# Altium footprint library WE-PoE.PcbLib: 11 footprints
Each footprint in its own frame and in the unit in brackets; x right, y up, seen from the top. Pads: shape width x height; smd on the part's side, far side on the other; paste and mask are expansions set on the pad; w line width, h text height; cw(c..) or ccw(c..) is an arc to the next point about the centre after c.
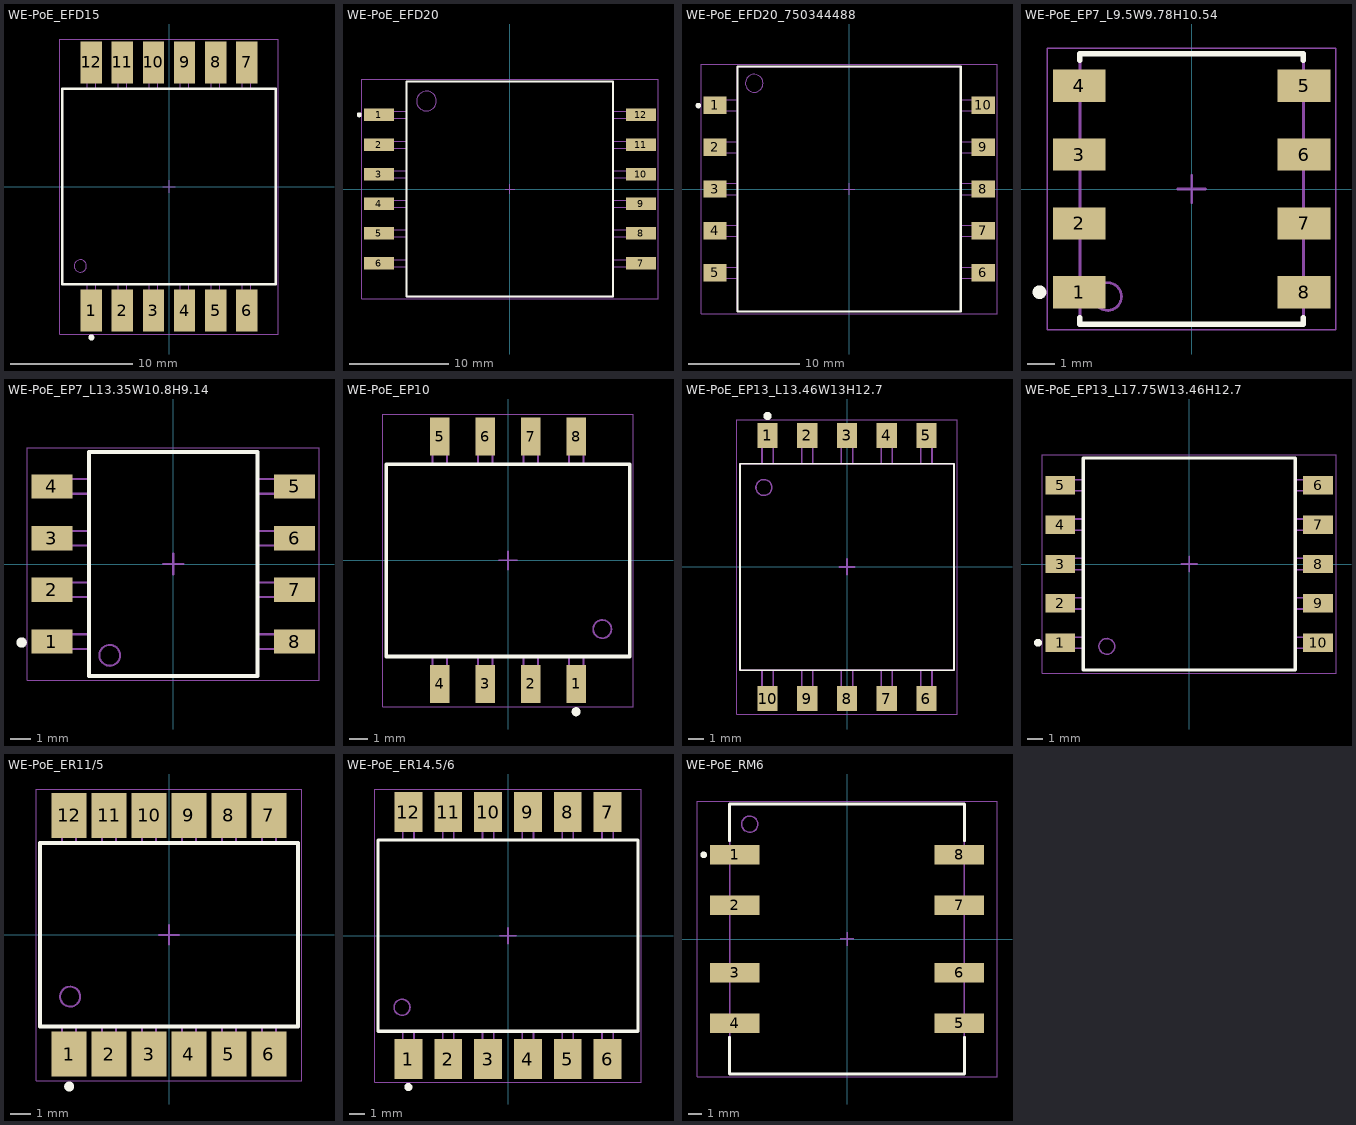
[diagram p0: the footprints below, top view; thin cyan lines are the x and y axes]

## WE-PoE_EFD15 [mm] "Power over Ethernet Transformer, size EFD15"
height 8.3
pads (12):
  rect 1.75x3.43 smd: 1(-6.35,-10.155) 2(-3.81,-10.155) 3(-1.27,-10.155) 4(1.27,-10.155) 5(3.81,-10.155) 6(6.35,-10.155) 7(6.35,10.155) 8(3.81,10.155) 9(1.27,10.155) 10(-1.27,10.155) 11(-3.81,10.155) 12(-6.35,10.155)
Top Overlay:
  circle w0.25: c-6.35,-12.35 r0.125
  lines w0.2: -8.75,-8 -8.75,8 8.75,8 8.75,-8 -8.75,-8
Top Assembly:
  circle w0.1: c-7.25,-6.5 r0.5
  lines w0.1: -6.7,-8 -6.7,-11.05 -6,-11.05 -6,-8 ; -6.7,8 -6.7,11.05 -6,11.05 -6,8 ; -4.16,-8 -4.16,-11.05 -3.46,-11.05 -3.46,-8 ; -4.16,8 -4.16,11.05 -3.46,11.05 -3.46,8 ; -1.62,-8 -1.62,-11.05 -0.92,-11.05 -0.92,-8 ; -1.62,8 -1.62,11.05 -0.92,11.05 -0.92,8 ; 0.92,-8 0.92,-11.05 1.62,-11.05 1.62,-8 ; 0.92,8 0.92,11.05 1.62,11.05 1.62,8 ; 3.46,-8 3.46,-11.05 4.16,-11.05 4.16,-8 ; 3.46,8 3.46,11.05 4.16,11.05 4.16,8 ; 6,-8 6,-11.05 6.7,-11.05 6.7,-8 ; 6,8 6,11.05 6.7,11.05 6.7,8 ; -8.75,-8 -8.75,8 8.75,8 8.75,-8 -8.75,-8
Top Designator:
  text ".Designator" at -3.647,-0.357 h1
Top Courtyard:
  lines w0.05: -8.95,-12.07 8.95,-12.07 8.95,12.07 -8.95,12.07 -8.95,-12.07
Top Component Center:
  lines w0.1: -0.5,0 0.5,0 ; 0,-0.5 0,0.5
3D body "EFD15_749119333.stp": height 8.3, standoff 0, extent -8.75,-11.05 8.75,11.05

## WE-PoE_EFD20 [mm] "Power over Ethernet Transformer, size EFD20"
height 11.43
pads (12):
  rect 3.05x1.27 smd: 1(-13.26,7.5) 2(-13.26,4.5) 3(-13.26,1.5) 4(-13.26,-1.5) 5(-13.26,-4.5) 6(-13.26,-7.5) 7(13.26,-7.5) 8(13.26,-4.5) 9(13.26,-1.5) 10(13.26,1.5) 11(13.26,4.5) 12(13.26,7.5)
Top Overlay:
  circle w0.25: c-15.257,7.51 r0.125
  lines w0.2: -10.45,-10.9 -10.45,10.9 10.45,10.9 10.45,-10.9 -10.45,-10.9
Top Assembly:
  circle w0.1: c-8.45,8.9 r1
  lines w0.1: -10.45,-7.855 -14.28,-7.855 -14.28,-7.145 -10.45,-7.145 ; -10.45,-4.855 -14.28,-4.855 -14.28,-4.145 -10.45,-4.145 ; -10.45,-1.855 -14.28,-1.855 -14.28,-1.145 -10.45,-1.145 ; -10.45,1.145 -14.28,1.145 -14.28,1.855 -10.45,1.855 ; -10.45,4.145 -14.28,4.145 -14.28,4.855 -10.45,4.855 ; -10.45,7.145 -14.28,7.145 -14.28,7.855 -10.45,7.855 ; 10.45,-7.855 14.28,-7.855 14.28,-7.145 10.45,-7.145 ; 10.45,-4.855 14.28,-4.855 14.28,-4.145 10.45,-4.145 ; 10.45,-1.855 14.28,-1.855 14.28,-1.145 10.45,-1.145 ; 10.45,1.145 14.28,1.145 14.28,1.855 10.45,1.855 ; 10.45,4.145 14.28,4.145 14.28,4.855 10.45,4.855 ; 10.45,7.145 14.28,7.145 14.28,7.855 10.45,7.855 ; -10.45,-10.9 -10.45,10.9 10.45,10.9 10.45,-10.9 -10.45,-10.9
Top Designator:
  text ".Designator" at -3.647,-0.357 h1
Top Courtyard:
  lines w0.05: -14.985,-11.1 -14.985,11.1 14.985,11.1 14.985,-11.1 -14.985,-11.1
Top Component Center:
  lines w0.1: -0.5,0 0.5,0 ; 0,-0.5 0,0.5
3D body "070-5899.STEP": height 10.93, standoff 0, extent -14.28,-10 14.28,10.1

## WE-PoE_EFD20_750344488 [mm] "Power over Ethernet Transformer, size EFD20"
height 10.92
pads (10):
  rect 2.08x1.55 smd: 1(-12.05,7.52) 2(-12.05,3.76) 3(-12.05,0) 4(-12.05,-3.76) 5(-12.05,-7.52) 6(12.05,-7.52) 7(12.05,-3.76) 8(12.05,0) 9(12.05,3.76) 10(12.05,7.52)
Top Overlay:
  circle w0.25: c-13.55,7.5 r0.125
  lines w0.2: -10.04,-11 -10.04,11 10.04,11 10.04,-11 -10.04,-11
Top Assembly:
  circle w0.1: c-8.54,9.5 r0.8
  lines w0.1: -10.04,-8.02 -12.58,-8.02 -12.58,-7.02 -10.04,-7.02 ; -10.04,-4.26 -12.58,-4.26 -12.58,-3.26 -10.04,-3.26 ; -10.04,-0.5 -12.58,-0.5 -12.58,0.5 -10.04,0.5 ; -10.04,3.26 -12.58,3.26 -12.58,4.26 -10.04,4.26 ; -10.04,7.02 -12.58,7.02 -12.58,8.02 -10.04,8.02 ; 10.04,-8.02 12.58,-8.02 12.58,-7.02 10.04,-7.02 ; 10.04,-4.26 12.58,-4.26 12.58,-3.26 10.04,-3.26 ; 10.04,-0.5 12.58,-0.5 12.58,0.5 10.04,0.5 ; 10.04,3.26 12.58,3.26 12.58,4.26 10.04,4.26 ; 10.04,7.02 12.58,7.02 12.58,8.02 10.04,8.02 ; -10.04,-11 -10.04,11 10.04,11 10.04,-11 -10.04,-11
Top Designator:
  text ".Designator" at -3.647,-0.357 h1
Top Courtyard:
  lines w0.05: -13.29,-11.2 -13.29,11.2 13.29,11.2 13.29,-11.2 -13.29,-11.2
Top Component Center:
  lines w0.1: -0.5,0 0.5,0 ; 0,-0.5 0,0.5
3D body "070-4290 (rev1) (1).STEP": height 10.56, standoff 0.03, extent -12.54,-10.74 12.54,10.74

## WE-PoE_EP7_L9.5W9.78H10.54 [mm] "Power over Ethernet Transformer, size EP7"
height 10.54
pads (8):
  rect 1.91x1.17 smd: 1(-4.065,-3.735) 2(-4.065,-1.245) 3(-4.065,1.245) 4(-4.065,3.735) 5(4.065,3.735) 6(4.065,1.245) 7(4.065,-1.245) 8(4.065,-3.735)
Top Overlay:
  circle w0.25: c-5.504,-3.732 r0.125
  lines w0.2: -4.04,-4.65 -4.04,-4.89 4.04,-4.89 4.04,-4.65 ; -4.04,4.65 -4.04,4.89 4.04,4.89 4.04,4.65
Top Assembly:
  circle w0.1: c-3.04,-3.89 r0.5
  lines w0.1: -4.04,-4.085 -4.4,-4.085 -4.4,-3.385 -4.04,-3.385 ; -4.04,-1.595 -4.4,-1.595 -4.4,-0.895 -4.04,-0.895 ; -4.04,0.895 -4.4,0.895 -4.4,1.595 -4.04,1.595 ; -4.04,3.385 -4.4,3.385 -4.4,4.085 -4.04,4.085 ; 4.04,-4.085 4.4,-4.085 4.4,-3.385 4.04,-3.385 ; 4.04,-1.595 4.4,-1.595 4.4,-0.895 4.04,-0.895 ; 4.04,0.895 4.4,0.895 4.4,1.595 4.04,1.595 ; 4.04,3.385 4.4,3.385 4.4,4.085 4.04,4.085 ; -4.04,-4.89 -4.04,4.89 4.04,4.89 4.04,-4.89 -4.04,-4.89
Top Designator:
  text ".Designator" at -3.647,-0.357 h1
Top Courtyard:
  lines w0.05: -5.22,-5.09 -5.22,5.09 5.22,5.09 5.22,-5.09 -5.22,-5.09
Top Component Center:
  lines w0.1: -0.5,0 0.5,0 ; 0,-0.5 0,0.5
3D body "070-4436 (rev1).STEP": height 10.09, standoff 0, extent -4.4,-4.89 4.4,4.89

## WE-PoE_EP7_L13.35W10.8H9.14 [mm] "Power over Ethernet Transformer, size EP7"
height 9.14
pads (8):
  rect 1.96x1.17 smd: 1(-5.84,-3.735) 2(-5.84,-1.245) 3(-5.84,1.245) 4(-5.84,3.735) 5(5.84,3.735) 6(5.84,1.245) 7(5.84,-1.245) 8(5.84,-3.735)
Top Overlay:
  circle w0.25: c-7.304,-3.782 r0.125
  lines w0.2: -4.06,-5.4 4.06,-5.4 4.06,5.4 -4.06,5.4 -4.06,-5.4
Top Assembly:
  circle w0.1: c-3.06,-4.4 r0.5
  lines w0.1: -4.06,-4.085 -6.35,-4.085 -6.35,-3.385 -4.06,-3.385 ; -4.06,-1.595 -6.35,-1.595 -6.35,-0.895 -4.06,-0.895 ; -4.06,0.895 -6.35,0.895 -6.35,1.595 -4.06,1.595 ; -4.06,3.385 -6.35,3.385 -6.35,4.085 -4.06,4.085 ; 4.06,-4.085 6.35,-4.085 6.35,-3.385 4.06,-3.385 ; 4.06,-1.595 6.35,-1.595 6.35,-0.895 4.06,-0.895 ; 4.06,0.895 6.35,0.895 6.35,1.595 4.06,1.595 ; 4.06,3.385 6.35,3.385 6.35,4.085 4.06,4.085 ; -4.06,-5.4 4.06,-5.4 4.06,5.4 -4.06,5.4 -4.06,-5.4
Top Designator:
  text ".Designator" at -3.647,-0.357 h1
Top Courtyard:
  lines w0.05: -7.02,-5.6 -7.02,5.6 7.02,5.6 7.02,-5.6 -7.02,-5.6
Top Component Center:
  lines w0.1: -0.5,0 0.5,0 ; 0,-0.5 0,0.5
3D body "Download_STP_EP7_070-4390 (rev1).STEP": height 8.6, standoff 0, extent -6.346,-5.234 6.354,5.226

## WE-PoE_EP10 [mm] "Power over Ethernet Transformer, size EP10"
height 11.43
pads (8):
  rect 1.07x2.08 smd: 1(3.735,-6.78) 2(1.245,-6.78) 3(-1.245,-6.78) 4(-3.735,-6.78) 5(-3.735,6.78) 6(-1.245,6.78) 7(1.245,6.78) 8(3.735,6.78)
Top Overlay:
  circle w0.25: c3.735,-8.3 r0.125
  lines w0.2: -6.67,-5.27 -6.67,5.27 6.67,5.27 6.67,-5.27 -6.67,-5.27
Top Assembly:
  circle w0.1: c5.17,-3.77 r0.5
  lines w0.1: -4.135,-5.27 -4.135,-7.62 -3.335,-7.62 -3.335,-5.27 ; -4.135,5.27 -4.135,7.62 -3.335,7.62 -3.335,5.27 ; -1.645,-5.27 -1.645,-7.62 -0.845,-7.62 -0.845,-5.27 ; -1.645,5.27 -1.645,7.62 -0.845,7.62 -0.845,5.27 ; 0.845,-5.27 0.845,-7.62 1.645,-7.62 1.645,-5.27 ; 0.845,5.27 0.845,7.62 1.645,7.62 1.645,5.27 ; 3.335,-5.27 3.335,-7.62 4.135,-7.62 4.135,-5.27 ; 3.335,5.27 3.335,7.62 4.135,7.62 4.135,5.27 ; -6.67,-5.27 -6.67,5.27 6.67,5.27 6.67,-5.27 -6.67,-5.27
Top Designator:
  text ".Designator" at -3.647,-0.357 h1
Top Courtyard:
  lines w0.05: -6.87,-8.02 -6.87,8.02 6.87,8.02 6.87,-8.02 -6.87,-8.02
Top Component Center:
  lines w0.1: -0.5,0 0.5,0 ; 0,-0.5 0,0.5
3D body "EP10_750310062.stp": height 11.43, standoff 0, extent -5.9,-7.62 5.9,7.62

## WE-PoE_EP13_L13.46W13H12.7 [mm] "Power over Ethernet Transformer, size EP13"
height 12.7
pads (10):
  rect 1.27x1.55 smd: 1(-5,8.275) 2(-2.5,8.275) 3(0,8.275) 4(2.5,8.275) 5(5,8.275) 6(5,-8.275) 7(2.5,-8.275) 8(0,-8.275) 9(-2.5,-8.275) 10(-5,-8.275)
Top Overlay:
  circle w0.25: c-5,9.5 r0.125
  lines w0.1: -6.73,-6.5 -6.73,6.5 6.73,6.5 6.73,-6.5 -6.73,-6.5
Top Assembly:
  circle w0.1: c-5.23,5 r0.5
  lines w0.1: -5.35,-6.5 -5.35,-8.875 -4.65,-8.875 -4.65,-6.5 ; -5.35,6.5 -5.35,8.875 -4.65,8.875 -4.65,6.5 ; -2.85,-6.5 -2.85,-8.875 -2.15,-8.875 -2.15,-6.5 ; -2.85,6.5 -2.85,8.875 -2.15,8.875 -2.15,6.5 ; -0.35,-6.5 -0.35,-8.875 0.35,-8.875 0.35,-6.5 ; -0.35,6.5 -0.35,8.875 0.35,8.875 0.35,6.5 ; 2.15,-6.5 2.15,-8.875 2.85,-8.875 2.85,-6.5 ; 2.15,6.5 2.15,8.875 2.85,8.875 2.85,6.5 ; 4.65,-6.5 4.65,-8.875 5.35,-8.875 5.35,-6.5 ; 4.65,6.5 4.65,8.875 5.35,8.875 5.35,6.5 ; -6.73,-6.5 -6.73,6.5 6.73,6.5 6.73,-6.5 -6.73,-6.5
Top Designator:
  text ".Designator" at -3.647,-0.357 h1
Top Courtyard:
  lines w0.05: -6.93,-9.25 -6.93,9.25 6.93,9.25 6.93,-9.25 -6.93,-9.25
Top Component Center:
  lines w0.1: -0.5,0 0.5,0 ; 0,-0.5 0,0.5
3D body "EP13_749119933.stp": height 12.5, standoff 0, extent -6.75,-8.875 6.75,8.875

## WE-PoE_EP13_L17.75W13.46H12.7 [mm] "Power over Ethernet Transformer, size EP13"
height 12.7
pads (10):
  rect 1.88x1.17 smd: 1(-8.18,-5) 2(-8.18,-2.5) 3(-8.18,0) 4(-8.18,2.5) 5(-8.18,5) 6(8.18,5) 7(8.18,2.5) 8(8.18,0) 9(8.18,-2.5) 10(8.18,-5)
Top Overlay:
  circle w0.25: c-9.6,-5 r0.125
  lines w0.2: -6.73,-6.73 -6.73,6.73 6.73,6.73 6.73,-6.73 -6.73,-6.73
Top Assembly:
  circle w0.1: c-5.23,-5.23 r0.5
  lines w0.1: -6.73,-5.355 -8.58,-5.355 -8.58,-4.645 -6.73,-4.645 ; -6.73,-2.855 -8.58,-2.855 -8.58,-2.145 -6.73,-2.145 ; -6.73,-0.355 -8.58,-0.355 -8.58,0.355 -6.73,0.355 ; -6.73,2.145 -8.58,2.145 -8.58,2.855 -6.73,2.855 ; -6.73,4.645 -8.58,4.645 -8.58,5.355 -6.73,5.355 ; 6.73,-5.355 8.58,-5.355 8.58,-4.645 6.73,-4.645 ; 6.73,-2.855 8.58,-2.855 8.58,-2.145 6.73,-2.145 ; 6.73,-0.355 8.58,-0.355 8.58,0.355 6.73,0.355 ; 6.73,2.145 8.58,2.145 8.58,2.855 6.73,2.855 ; 6.73,4.645 8.58,4.645 8.58,5.355 6.73,5.355 ; -6.73,-6.73 -6.73,6.73 6.73,6.73 6.73,-6.73 -6.73,-6.73
Top Designator:
  text ".Designator" at -3.647,-0.357 h1
Top Courtyard:
  lines w0.05: -9.32,-6.93 -9.32,6.93 9.32,6.93 9.32,-6.93 -9.32,-6.93
Top Component Center:
  lines w0.1: -0.5,0 0.5,0 ; 0,-0.5 0,0.5
3D body "070-5465 (rev1).STEP": height 11.96, standoff 0, extent -8.58,-6.55 8.58,6.55

## WE-PoE_ER11/5 [mm] "Power over Ethernet Transformer, size ER11/5"
height 6.2
pads (12):
  rect 1.75x2.25 smd: 1(-5,-5.975) 2(-3,-5.975) 3(-1,-5.975) 4(1,-5.975) 5(3,-5.975) 6(5,-5.975) 7(5,5.975) 8(3,5.975) 9(1,5.975) 10(-1,5.975) 11(-3,5.975) 12(-5,5.975)
Top Overlay:
  circle w0.25: c-5,-7.6 r0.125
  lines w0.2: -6.45,-4.6 -6.45,4.6 6.45,4.6 6.45,-4.6 -6.45,-4.6
Top Assembly:
  circle w0.1: c-4.95,-3.1 r0.5
  lines w0.1: -5.35,-4.6 -5.35,-6.5 -4.65,-6.5 -4.65,-4.6 ; -5.35,4.6 -5.35,6.5 -4.65,6.5 -4.65,4.6 ; -3.35,-4.6 -3.35,-6.5 -2.65,-6.5 -2.65,-4.6 ; -3.35,4.6 -3.35,6.5 -2.65,6.5 -2.65,4.6 ; -1.35,-4.6 -1.35,-6.5 -0.65,-6.5 -0.65,-4.6 ; -1.35,4.6 -1.35,6.5 -0.65,6.5 -0.65,4.6 ; 0.65,-4.6 0.65,-6.5 1.35,-6.5 1.35,-4.6 ; 0.65,4.6 0.65,6.5 1.35,6.5 1.35,4.6 ; 2.65,-4.6 2.65,-6.5 3.35,-6.5 3.35,-4.6 ; 2.65,4.6 2.65,6.5 3.35,6.5 3.35,4.6 ; 4.65,-4.6 4.65,-6.5 5.35,-6.5 5.35,-4.6 ; 4.65,4.6 4.65,6.5 5.35,6.5 5.35,4.6 ; -6.45,-4.6 6.45,-4.6 6.45,4.6 -6.45,4.6 -6.45,-4.6
Top Designator:
  text ".Designator" at -3.647,-0.357 h1
Top Courtyard:
  lines w0.05: -6.65,-7.3 6.65,-7.3 6.65,7.3 -6.65,7.3 -6.65,-7.3
Top Component Center:
  lines w0.1: -0.5,0 0.5,0 ; 0,-0.5 0,0.5
3D body "ER11_5_749119133.stp": height 6.2, standoff 0, extent -6.45,-6.5 6.45,6.5

## WE-PoE_ER14.5/6 [mm] "Power over Ethernet Transformer, size ER14.5/6"
height 7.4
pads (12):
  rect 1.75x2.5 smd: 1(-6.25,-7.75) 2(-3.75,-7.75) 3(-1.25,-7.75) 4(1.25,-7.75) 5(3.75,-7.75) 6(6.25,-7.75) 7(6.25,7.75) 8(3.75,7.75) 9(1.25,7.75) 10(-1.25,7.75) 11(-3.75,7.75) 12(-6.25,7.75)
Top Overlay:
  circle w0.25: c-6.25,-9.5 r0.125
  lines w0.2: -8.15,-6 -8.15,6 8.15,6 8.15,-6 -8.15,-6
Top Assembly:
  circle w0.1: c-6.65,-4.5 r0.5
  lines w0.1: -6.6,-6 -6.6,-8.4 -5.9,-8.4 -5.9,-6 ; -6.6,6 -6.6,8.4 -5.9,8.4 -5.9,6 ; -4.1,-6 -4.1,-8.4 -3.4,-8.4 -3.4,-6 ; -4.1,6 -4.1,8.4 -3.4,8.4 -3.4,6 ; -1.6,-6 -1.6,-8.4 -0.9,-8.4 -0.9,-6 ; -1.6,6 -1.6,8.4 -0.9,8.4 -0.9,6 ; 0.9,-6 0.9,-8.4 1.6,-8.4 1.6,-6 ; 0.9,6 0.9,8.4 1.6,8.4 1.6,6 ; 3.4,-6 3.4,-8.4 4.1,-8.4 4.1,-6 ; 3.4,6 3.4,8.4 4.1,8.4 4.1,6 ; 5.9,-6 5.9,-8.4 6.6,-8.4 6.6,-6 ; 5.9,6 5.9,8.4 6.6,8.4 6.6,6 ; -8.15,-6 8.15,-6 8.15,6 -8.15,6 -8.15,-6
Top Designator:
  text ".Designator" at -3.647,-0.357 h1
Top Courtyard:
  lines w0.05: -8.35,-9.2 8.35,-9.2 8.35,9.2 -8.35,9.2 -8.35,-9.2
Top Component Center:
  lines w0.1: -0.5,0 0.5,0 ; 0,-0.5 0,0.5
3D body "ER14,5_6_749119218.stp": height 7.4, standoff 0, extent -8.15,-8.4 8.15,8.4

## WE-PoE_RM6 [mm] "Power over Ethernet Transformer, size RM6"
height 13.34
pads (8):
  rect 3.68x1.45 smd: 1(-8.325,6.26) 2(-8.325,2.5) 3(-8.325,-2.5) 4(-8.325,-6.26) 5(8.325,-6.26) 6(8.325,-2.5) 7(8.325,2.5) 8(8.325,6.26)
Top Overlay:
  circle w0.25: c-10.65,6.25 r0.125
  lines w0.2: -8.725,-7.3 -8.725,-10.035 8.725,-10.035 8.725,-7.3 ; -8.725,7.3 -8.725,10.035 8.725,10.035 8.725,7.3
Top Assembly:
  circle w0.1: c-7.225,8.535 r0.6
  lines w0.1: -8.725,-10.035 -8.725,10.035 8.725,10.035 8.725,-10.035 -8.725,-10.035
Top Designator:
  text ".Designator" at -3.647,-0.357 h1
Top Courtyard:
  lines w0.05: -11.145,-10.235 11.145,-10.235 11.145,10.235 -11.145,10.235 -11.145,-10.235
Top Component Center:
  lines w0.1: -0.5,0 0.5,0 ; 0,-0.5 0,0.5
3D body "Download_STP_070-4892 (rev1).STEP": height 13.05, standoff 0, extent -10.255,-8.995 10.245,9.005